# Altium schematic symbol library VCNL4100.Schlib: 1 symbol
Pins are listed as number, name and electrical type; pins without a type are passive.

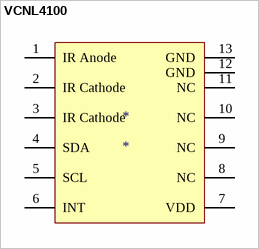
[diagram p0: symbol VCNL4100]

## VCNL4100
designator *
pins: 1 IR Anode, 2 IR Cathode, 3 IR Cathode, 4 SDA, 5 SCL, 6 INT, 7 VDD, 8 NC, 9 NC, 10 NC, 11 NC, 12 GND, 13 GND